# EAGLE library part К161ПР1 (library КР1534,К161,К120)
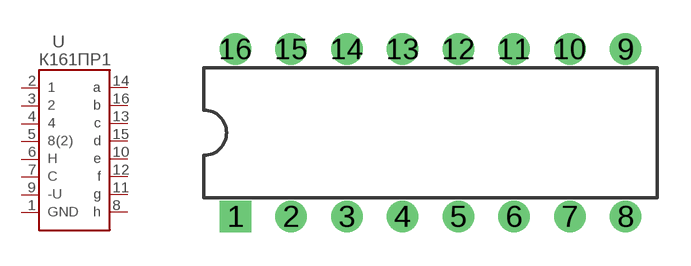
[diagram p4: symbol with the pads of 238.16-1; footprint 238.16-1]

Designator prefix -

## К161ПР1  [238.16-1]
1  GND  pwr
2  1  in
3  2  in
4  4  in
5  8  in
6  HIN  in
7  СC  in
8  H  out
9  -VCC  pwr
10  E  out
11  G  out
12  F  out
13  C  out
14  A  out
15  D  out
16  B  out

## Footprint 238.16-1 (pad centres in mm)
drill 0.9 square: 1 -8.75,-3.75
drill 0.9: 2 -6.25,-3.75; 3 -3.75,-3.75; 4 -1.25,-3.75; 5 1.25,-3.75; 6 3.75,-3.75; 7 6.25,-3.75; 8 8.75,-3.75; 9 8.75,3.75; 10 6.25,3.75; 11 3.75,3.75; 12 1.25,3.75; 13 -1.25,3.75; 14 -3.75,3.75; 15 -6.25,3.75; 16 -8.75,3.75